# Altium footprint library DIP - Peg Leads.PcbLib: 71 footprints (part 3 of 5)
Each footprint in its own frame and in the unit in brackets; x right, y up, seen from the top. Pads: shape width x height; smd on the part's side, far side on the other; paste and mask are expansions set on the pad; w line width, h text height; cw(c..) or ccw(c..) is an arc to the next point about the centre after c.
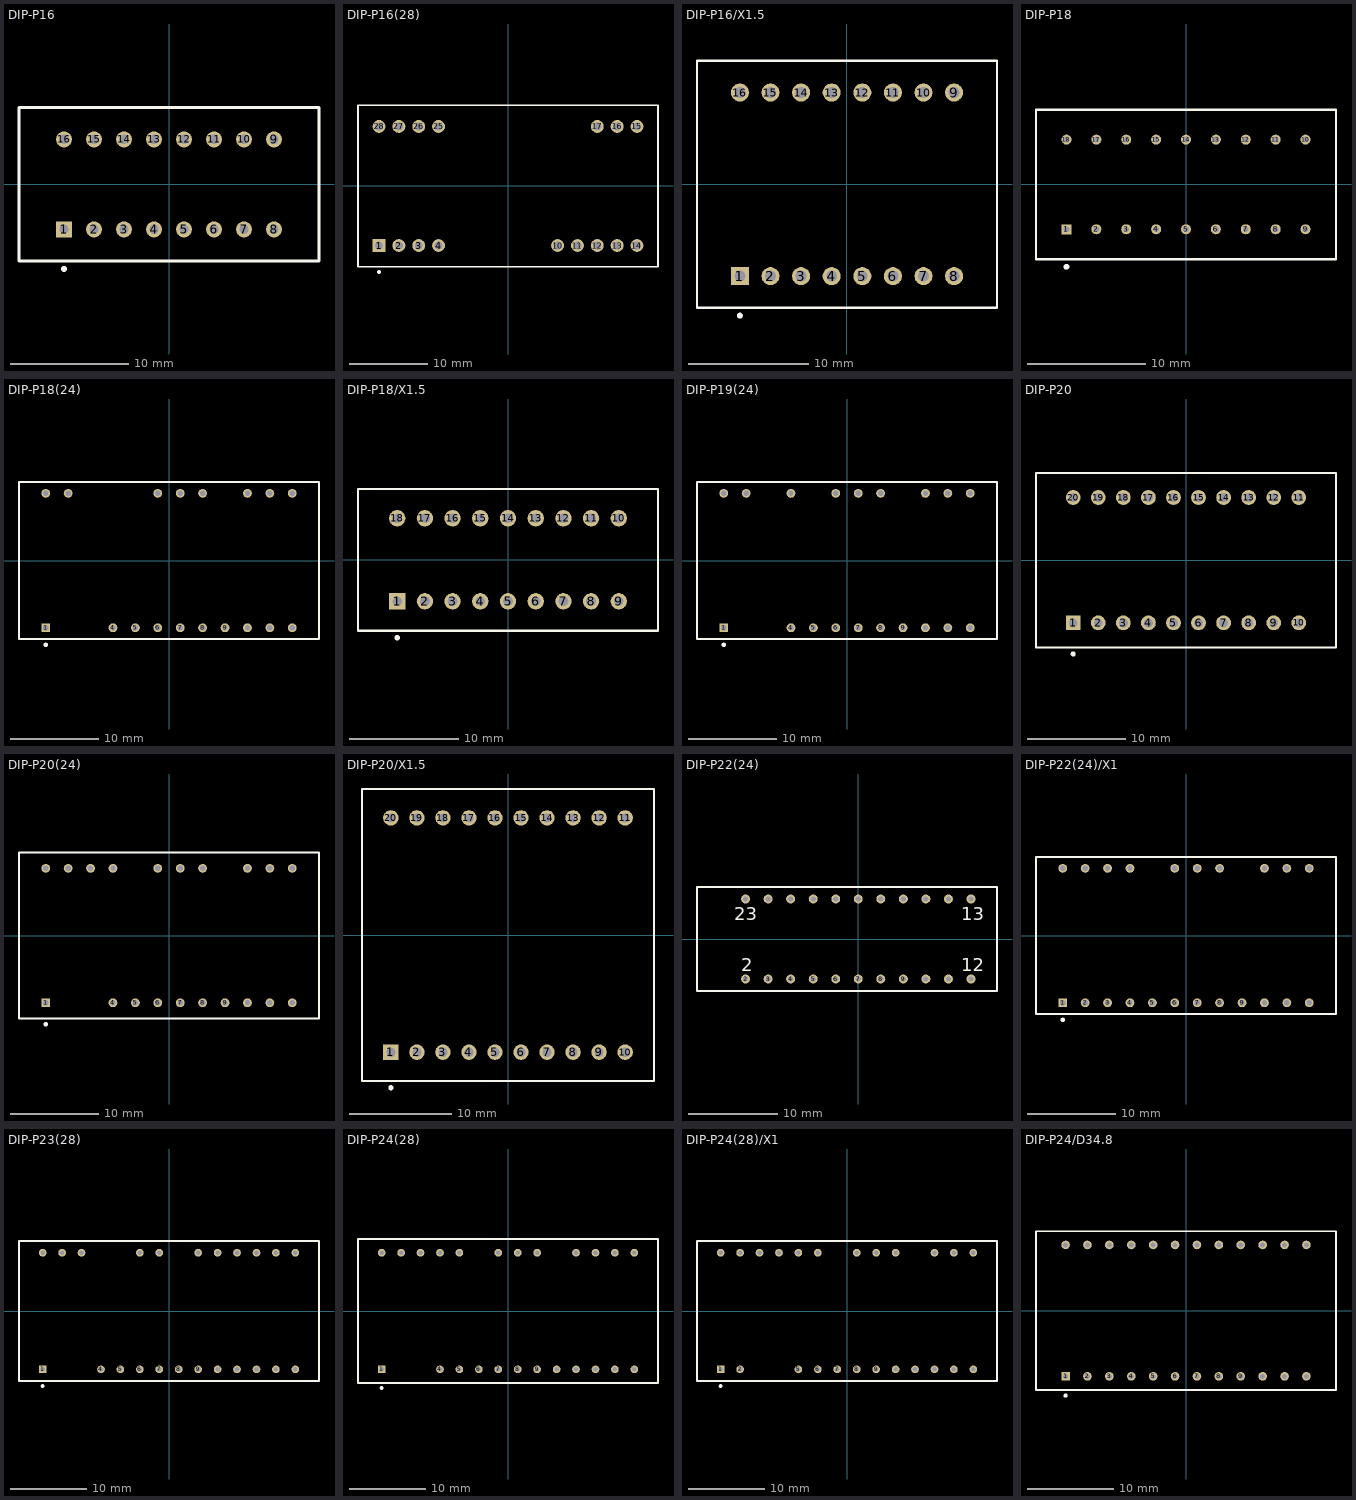
[diagram p2: the footprints below, top view; thin cyan lines are the x and y axes]

## DIP-P16 [mm] "DIP; 16 Round Pins; Row Space 7.62 mm; Pitch 2.54 mm"
height 5.08
pads (16):
  rect 1.35x1.35 hole 0.8: 1(-8.89,-3.81)
  round 1.35 hole 0.8: 2(-6.35,-3.81) 3(-3.81,-3.81) 4(-1.27,-3.81) 5(1.27,-3.81) 6(3.81,-3.81) 7(6.35,-3.81) 8(8.89,-3.81) 9(8.89,3.81) 10(6.35,3.81) 11(3.81,3.81) 12(1.27,3.81) 13(-1.27,3.81) 14(-3.81,3.81) 15(-6.35,3.81) 16(-8.89,3.81)
Top Overlay:
  circle w0.25: c-8.89,-7.15 r0.125
  lines w0.25: -12.7,-6.5 -12.7,6.5 12.7,6.5 12.7,-6.5 -12.7,-6.5

## DIP-P16(28) [mm] "DIP; 28 Round Pins (12 Absent); Row Space 15.24 mm; Pitch 2.54 mm"
height 14.58
pads (16):
  rect 1.65x1.65 hole 1: 1(-16.51,-7.62)
  round 1.65 hole 1: 2(-13.97,-7.62) 3(-11.43,-7.62) 4(-8.89,-7.62) 10(6.35,-7.62) 11(8.89,-7.62) 12(11.43,-7.62) 13(13.97,-7.62) 14(16.51,-7.62) 15(16.51,7.62) 16(13.97,7.62) 17(11.43,7.62) 25(-8.89,7.62) 26(-11.43,7.62) 27(-13.97,7.62) 28(-16.51,7.62)
Top Overlay:
  circle w0.25: c-16.51,-11 r0.125
  lines w0.2: -19.2,-10.35 -19.2,-0.635 -19.2,10.35 19.2,10.35 19.2,-10.35 -19.2,-10.35

## DIP-P16/X1.5 [mm] "DIP; 16 Round Pins; Row Space 15.24 mm; Pitch 2.54 mm"
height 4.83
pads (16):
  rect 1.5x1.5 hole 0.9: 1(-8.89,-7.62)
  round 1.5 hole 0.9: 2(-6.35,-7.62) 3(-3.81,-7.62) 4(-1.27,-7.62) 5(1.27,-7.62) 6(3.81,-7.62) 7(6.35,-7.62) 8(8.89,-7.62) 9(8.89,7.62) 10(6.35,7.62) 11(3.81,7.62) 12(1.27,7.62) 13(-1.27,7.62) 14(-3.81,7.62) 15(-6.35,7.62) 16(-8.89,7.62)
Top Overlay:
  circle w0.25: c-8.89,-10.9 r0.125
  lines w0.2: -12.45,-10.25 -12.45,-0.635 -12.45,10.25 12.45,10.25 12.45,-10.25 -12.45,-10.25

## DIP-P18 [mm] "DIP; 18 Rectangular Pins; Row Space 7.62 mm; Pitch 2.54 mm"
height 5
pads (18):
  rect 0.85x0.85 hole 0.5: 1(-10.16,-3.81)
  round 0.85 hole 0.5: 2(-7.62,-3.81) 3(-5.08,-3.81) 4(-2.54,-3.81) 5(0,-3.81) 6(2.54,-3.81) 7(5.08,-3.81) 8(7.62,-3.81) 9(10.16,-3.81) 10(10.16,3.81) 11(7.62,3.81) 12(5.08,3.81) 13(2.54,3.81) 14(0,3.81) 15(-2.54,3.81) 16(-5.08,3.81) 17(-7.62,3.81) 18(-10.16,3.81)
Top Overlay:
  circle w0.25: c-10.16,-7 r0.125
  lines w0.2: -12.75,-6.35 -12.75,-0.635 -12.75,6.35 12.75,6.35 12.75,-6.35 -12.75,-6.35

## DIP-P18(24) [mm] "DIP; 24 Rectangular pins (6 Absent); Row Space 15.24 mm; Pitch 2.54 mm"
height 10.03
pads (18):
  rect 1x1 hole 0.6: 1(-13.97,-7.62)
  round 1 hole 0.6: 4(-6.35,-7.62) 5(-3.81,-7.62) 6(-1.27,-7.62) 7(1.27,-7.62) 8(3.81,-7.62) 9(6.35,-7.62) 10(8.89,-7.62) 11(11.43,-7.62) 12(13.97,-7.62) 13(13.97,7.62) 14(11.43,7.62) 15(8.89,7.62) 17(3.81,7.62) 18(1.27,7.62) 19(-1.27,7.62) 23(-11.43,7.62) 24(-13.97,7.62)
Top Overlay:
  circle w0.25: c-13.97,-9.55 r0.125
  lines w0.25: -17,-8.9 17,-8.9 17,8.9 -17,8.9 -17,-0.635 -17,-8.9

## DIP-P18/X1.5 [mm] "DIP; 18 Round Pins; Row Space 7.62 mm; Pitch 2.54 mm"
height 6.35
pads (18):
  rect 1.5x1.5 hole 0.9: 1(-10.16,-3.81)
  round 1.5 hole 0.9: 2(-7.62,-3.81) 3(-5.08,-3.81) 4(-2.54,-3.81) 5(0,-3.81) 6(2.54,-3.81) 7(5.08,-3.81) 8(7.62,-3.81) 9(10.16,-3.81) 10(10.16,3.81) 11(7.62,3.81) 12(5.08,3.81) 13(2.54,3.81) 14(0,3.81) 15(-2.54,3.81) 16(-5.08,3.81) 17(-7.62,3.81) 18(-10.16,3.81)
Top Overlay:
  circle w0.25: c-10.16,-7.15 r0.125
  lines w0.2: -13.75,-6.5 -13.75,-0.635 -13.75,6.5 13.75,6.5 13.75,-6.5 -13.75,-6.5

## DIP-P19(24) [mm] "DIP; 24 Rectangular pins (5 Absent); Row Space 15.24 mm; Pitch 2.54 mm"
height 10.03
pads (19):
  rect 1x1 hole 0.6: 1(-13.97,-7.62)
  round 1 hole 0.6: 4(-6.35,-7.62) 5(-3.81,-7.62) 6(-1.27,-7.62) 7(1.27,-7.62) 8(3.81,-7.62) 9(6.35,-7.62) 10(8.89,-7.62) 11(11.43,-7.62) 12(13.97,-7.62) 13(13.97,7.62) 14(11.43,7.62) 15(8.89,7.62) 17(3.81,7.62) 18(1.27,7.62) 19(-1.27,7.62) 21(-6.35,7.62) 23(-11.43,7.62) 24(-13.97,7.62)
Top Overlay:
  circle w0.25: c-13.97,-9.55 r0.125
  lines w0.25: -17,-8.9 17,-8.9 17,8.9 -17,8.9 -17,-0.635 -17,-8.9

## DIP-P20 [mm] "DIP; 20 Round Pins; Row Space 12.7 mm; Pitch 2.54 mm"
height 9.25
pads (20):
  rect 1.5x1.5 hole 0.9: 1(-11.43,-6.35)
  round 1.5 hole 0.9: 2(-8.89,-6.35) 3(-6.35,-6.35) 4(-3.81,-6.35) 5(-1.27,-6.35) 6(1.27,-6.35) 7(3.81,-6.35) 8(6.35,-6.35) 9(8.89,-6.35) 10(11.43,-6.35) 11(11.43,6.35) 12(8.89,6.35) 13(6.35,6.35) 14(3.81,6.35) 15(1.27,6.35) 16(-1.27,6.35) 17(-3.81,6.35) 18(-6.35,6.35) 19(-8.89,6.35) 20(-11.43,6.35)
Top Overlay:
  circle w0.25: c-11.43,-9.5 r0.125
  lines w0.2: -15.2,-8.85 15.2,-8.85 15.2,8.85 -15.2,8.85 -15.2,-0.635 -15.2,-8.85

## DIP-P20(24) [mm] "DIP; 24 Rectangular pins (4 Absent); Row Space 15.24 mm; Pitch 2.54 mm"
height 10.03
pads (20):
  rect 1x1 hole 0.6: 1(-13.97,-7.62)
  round 1 hole 0.6: 4(-6.35,-7.62) 5(-3.81,-7.62) 6(-1.27,-7.62) 7(1.27,-7.62) 8(3.81,-7.62) 9(6.35,-7.62) 10(8.89,-7.62) 11(11.43,-7.62) 12(13.97,-7.62) 13(13.97,7.62) 14(11.43,7.62) 15(8.89,7.62) 17(3.81,7.62) 18(1.27,7.62) 19(-1.27,7.62) 21(-6.35,7.62) 22(-8.89,7.62) 23(-11.43,7.62) 24(-13.97,7.62)
Top Overlay:
  circle w0.25: c-13.97,-10.05 r0.125
  lines w0.25: -17,-9.4 -17,-0.635 -17,9.4 17,9.4 17,-9.4 -17,-9.4

## DIP-P20/X1.5 [mm] "DIP; 20 Round Pins; Row Space 22.86 mm; Pitch 2.54 mm"
height 7.24
pads (20):
  rect 1.5x1.5 hole 0.9: 1(-11.43,-11.43)
  round 1.5 hole 0.9: 2(-8.89,-11.43) 3(-6.35,-11.43) 4(-3.81,-11.43) 5(-1.27,-11.43) 6(1.27,-11.43) 7(3.81,-11.43) 8(6.35,-11.43) 9(8.89,-11.43) 10(11.43,-11.43) 11(11.43,11.43) 12(8.89,11.43) 13(6.35,11.43) 14(3.81,11.43) 15(1.27,11.43) 16(-1.27,11.43) 17(-3.81,11.43) 18(-6.35,11.43) 19(-8.89,11.43) 20(-11.43,11.43)
Top Overlay:
  circle w0.25: c-11.43,-14.9 r0.125
  lines w0.2: -14.25,-14.25 -14.25,-0.635 -14.25,14.25 14.25,14.25 14.25,-14.25 -14.25,-14.25

## DIP-P22(24) [mm] "DIP; 24 Rectangular pins (2 Absent); Row Space 9.015 mm; Pitch 2.54 mm"
height 10.23
pads (22):
  round 1 hole 0.6: 2(-12.7,-4.51) 3(-10.16,-4.51) 4(-7.62,-4.51) 5(-5.08,-4.51) 6(-2.54,-4.51) 7(0,-4.51) 8(2.54,-4.51) 9(5.08,-4.51) 10(7.62,-4.51) 11(10.16,-4.51) 12(12.7,-4.51) 13(12.7,4.51) 14(10.16,4.51) 15(7.62,4.51) 16(5.08,4.51) 17(2.54,4.51) 18(0,4.51) 19(-2.54,4.51) 20(-5.08,4.51) 21(-7.62,4.51) 22(-10.16,4.51) 23(-12.7,4.51)
Top Overlay:
  lines w0.25: -18.17,-5.85 15.63,-5.85 15.63,5.85 -18.17,5.85 -18.17,-0.635 -18.17,-5.85
  text "2" at -13.2,-3.635 h1.5
  text "12" at 11.575,-3.635 h1.5
  text "13" at 11.575,2.135 h1.5
  text "23" at -13.95,2.135 h1.5

## DIP-P22(24)/X1 [mm] "DIP; 24 Rectangular pins (2 Absent); Row Space 15.24 mm; Pitch 2.54 mm"
height 10.13
pads (22):
  rect 1x1 hole 0.6: 1(-13.97,-7.62)
  round 1 hole 0.6: 2(-11.43,-7.62) 3(-8.89,-7.62) 4(-6.35,-7.62) 5(-3.81,-7.62) 6(-1.27,-7.62) 7(1.27,-7.62) 8(3.81,-7.62) 9(6.35,-7.62) 10(8.89,-7.62) 11(11.43,-7.62) 12(13.97,-7.62) 13(13.97,7.62) 14(11.43,7.62) 15(8.89,7.62) 17(3.81,7.62) 18(1.27,7.62) 19(-1.27,7.62) 21(-6.35,7.62) 22(-8.89,7.62) 23(-11.43,7.62) 24(-13.97,7.62)
Top Overlay:
  circle w0.25: c-13.97,-9.55 r0.125
  lines w0.25: -17,-8.9 17,-8.9 17,8.9 -17,8.9 -17,-0.635 -17,-8.9

## DIP-P23(28) [mm] "DIP; 28 Rectangular pins (5 Absent); Row Space 15.24 mm; Pitch 2.54 mm"
height 10.15
pads (23):
  rect 1x1 hole 0.6: 1(-16.51,-7.62)
  round 1 hole 0.6: 4(-8.89,-7.62) 5(-6.35,-7.62) 6(-3.81,-7.62) 7(-1.27,-7.62) 8(1.27,-7.62) 9(3.81,-7.62) 10(6.35,-7.62) 11(8.89,-7.62) 12(11.43,-7.62) 13(13.97,-7.62) 14(16.51,-7.62) 15(16.51,7.62) 16(13.97,7.62) 17(11.43,7.62) 18(8.89,7.62) 19(6.35,7.62) 20(3.81,7.62) 22(-1.27,7.62) 23(-3.81,7.62) 26(-11.43,7.62) 27(-13.97,7.62) 28(-16.51,7.62)
Top Overlay:
  circle w0.25: c-16.51,-9.8 r0.125
  lines w0.25: -19.6,-9.15 -19.6,-0.635 -19.6,9.15 19.6,9.15 19.6,-9.15 -19.6,-9.15

## DIP-P24(28) [mm] "DIP; 28 Rectangular pins (4 Absent); Row Space 15.24 mm; Pitch 2.54 mm"
height 10.15
pads (24):
  rect 1x1 hole 0.6: 1(-16.51,-7.62)
  round 1 hole 0.6: 4(-8.89,-7.62) 5(-6.35,-7.62) 6(-3.81,-7.62) 7(-1.27,-7.62) 8(1.27,-7.62) 9(3.81,-7.62) 10(6.35,-7.62) 11(8.89,-7.62) 12(11.43,-7.62) 13(13.97,-7.62) 14(16.51,-7.62) 15(16.51,7.62) 16(13.97,7.62) 17(11.43,7.62) 18(8.89,7.62) 20(3.81,7.62) 21(1.27,7.62) 22(-1.27,7.62) 24(-6.35,7.62) 25(-8.89,7.62) 26(-11.43,7.62) 27(-13.97,7.62) 28(-16.51,7.62)
Top Overlay:
  circle w0.25: c-16.51,-10.05 r0.125
  lines w0.25: -19.6,-9.4 19.6,-9.4 19.6,9.4 -19.6,9.4 -19.6,-0.635 -19.6,-9.4

## DIP-P24(28)/X1 [mm] "DIP; 28 Rectangular pins (4 Absent); Row Space 15.24 mm; Pitch 2.54 mm"
height 10.15
pads (24):
  rect 1x1 hole 0.6: 1(-16.51,-7.62)
  round 1 hole 0.6: 2(-13.97,-7.62) 5(-6.35,-7.62) 6(-3.81,-7.62) 7(-1.27,-7.62) 8(1.27,-7.62) 9(3.81,-7.62) 10(6.35,-7.62) 11(8.89,-7.62) 12(11.43,-7.62) 13(13.97,-7.62) 14(16.51,-7.62) 15(16.51,7.62) 16(13.97,7.62) 17(11.43,7.62) 19(6.35,7.62) 20(3.81,7.62) 21(1.27,7.62) 23(-3.81,7.62) 24(-6.35,7.62) 25(-8.89,7.62) 26(-11.43,7.62) 27(-13.97,7.62) 28(-16.51,7.62)
Top Overlay:
  circle w0.25: c-16.51,-9.8 r0.125
  lines w0.25: -19.6,-9.15 19.6,-9.15 19.6,9.15 -19.6,9.15 -19.6,-0.635 -19.6,-9.15

## DIP-P24/D34.8 [mm] "DIP; 24 Rectangular Pins; Row Space 15.24 mm; Pitch 2.54 mm"
height 9.65
pads (24):
  rect 1x1 hole 0.6: 1(-13.97,-7.62)
  round 1 hole 0.6: 2(-11.43,-7.62) 3(-8.89,-7.62) 4(-6.35,-7.62) 5(-3.81,-7.62) 6(-1.27,-7.62) 7(1.27,-7.62) 8(3.81,-7.62) 9(6.35,-7.62) 10(8.89,-7.62) 11(11.43,-7.62) 12(13.97,-7.62) 13(13.97,7.62) 14(11.43,7.62) 15(8.89,7.62) 16(6.35,7.62) 17(3.81,7.62) 18(1.27,7.62) 19(-1.27,7.62) 20(-3.81,7.62) 21(-6.35,7.62) 22(-8.89,7.62) 23(-11.43,7.62) 24(-13.97,7.62)
Top Overlay:
  circle w0.25: c-13.97,-9.85 r0.125
  lines w0.2: -17.4,-9.2 -17.4,9.2 17.4,9.2 17.4,-9.2 -17.4,-9.2